# Altium schematic symbol library 野火_EBF6ULL B1 Pro 底板_原理图封装_AD格式.SCHLIB: 140 symbols (part 2 of 2)
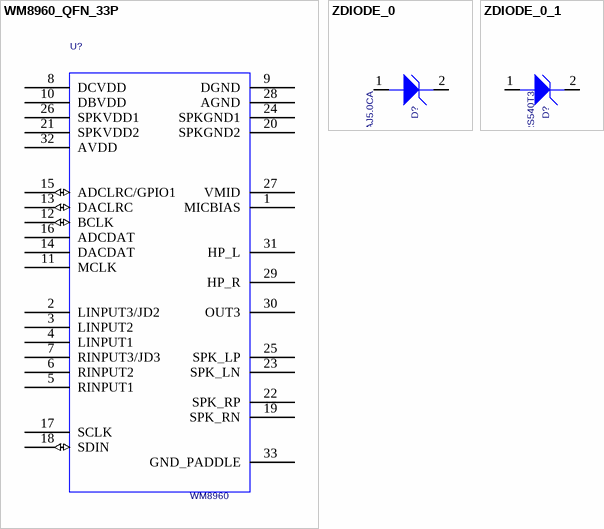
[diagram p5: symbols WM8960_QFN_33P to ZDIODE_0_1]

## WM8960_QFN_33P
designator U?  value WM8960  (hidden comment: WM8960_QFN_33P)
IC CODEC STEREO WITH CLASS D SPEAKER DRIVER 1.71-3.6V QFN32; CAD_APPROVED: Yes; MFG_PN01: WM8960CGEFL/RV; MFG_NAME01: WOLFSON MICROELECTRONICS; AGILE_PN: 315-79450; Source_Path: Q:\ORCADCIS\SYMBOLS\FCL_IC2.OLB; PCB DECAL: QFN32; HEIGHT: 1MM; ROHS: Yes; CLASS: IC
footprint QFN32
pins: 1 MICBIAS, 2 LINPUT3/JD2, 3 LINPUT2, 4 LINPUT1, 5 RINPUT1, 6 RINPUT2, 7 RINPUT3/JD3, 8 DCVDD (power), 9 DGND (power), 10 DBVDD (power), 11 MCLK, 12 BCLK (io), 13 DACLRC (io), 14 DACDAT, 15 ADCLRC/GPIO1 (io), 16 ADCDAT, 17 SCLK, 18 SDIN (io), 19 SPK_RN, 20 SPKGND2 (power), 21 SPKVDD2 (power), 22 SPK_RP, 23 SPK_LN, 24 SPKGND1 (power), 25 SPK_LP, 26 SPKVDD1 (power), 27 VMID, 28 AGND (power), 29 HP_R, 30 OUT3, 31 HP_L, 32 AVDD (power), 33 GND_PADDLE (power)

## ZDIODE_0
designator D?  value SMAJ5.0CA  (hidden comment: ZDIODE_0)
DIODE ZNR -- 0.2W 5.1V AEC-Q101 SOD523; PCB DECAL: DO214; CAD_APPROVED: Yes; MFG_PN01: MM5Z5V1ST1G; MFG_NAME01: ON SEMICONDUCTOR; AGILE_PN: 480-77217; Source_Path: H:\NXP_RT1050\SCH\IMXRT1052_MB.DSN; CLASS: IC; HEIGHT: 0.7MM; ROHS: Yes
footprint DO214
pins: 1 ANODE, 2 CATHODE

## ZDIODE_0_1
designator D?, comment value MBRS540T3  (hidden comment: ZDIODE_0)
DIODE ZNR -- 0.2W 5.1V AEC-Q101 SOD523; PCB DECAL: SMC; AGILE_PN: 480-77217; MFG_NAME01: ON SEMICONDUCTOR; MFG_PN01: MM5Z5V1ST1G; CAD_APPROVED: Yes; Source_Path: H:\NXP_RT1050\SCH\IMXRT1052_MB.DSN; CLASS: IC; ROHS: Yes; HEIGHT: 0.7MM
footprint SMC
pins: 1 ANODE, 2 CATHODE